# EAGLE library part DWM1000 (library libsDWM1000)
Mod Ieee802.15.4-2011 Uwb Txrx
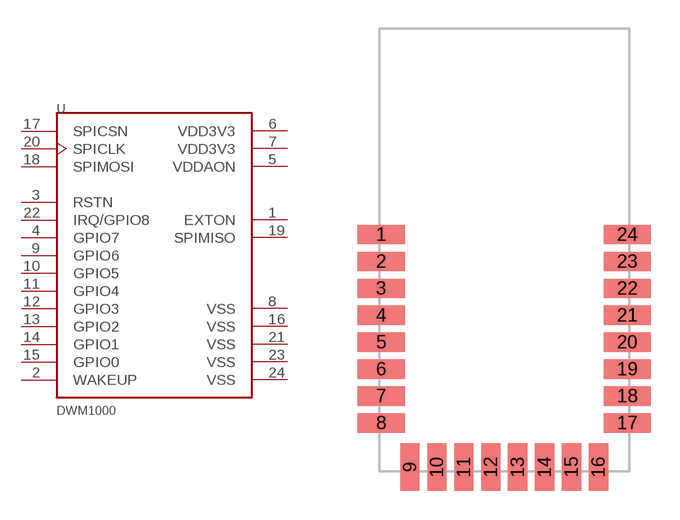
[diagram p0: symbol with the pads of XCVR_DWM1000; footprint XCVR_DWM1000]

Designator prefix U

## DWM1000  [XCVR_DWM1000]
1  EXTON  out
2  WAKEUP
3  RSTN
4  GPIO7
5  VDDAON  pwr
6  VDD3V3  pwr
7  VDD3V3  pwr
8  VSS  pwr
9  GPIO6
10  GPIO5
11  GPIO4
12  GPIO3
13  GPIO2
14  GPIO1
15  GPIO0
16  VSS  pwr
17  SPICSN  in
18  SPIMOSI  in
19  SPIMISO  out
20  SPICLK  in
21  VSS  pwr
22  IRQ/GPIO8
23  VSS  pwr
24  VSS  pwr

## Footprint XCVR_DWM1000 (pad centres in mm)
smd 2.45 x 1: 1 -6.4,1.8; 2 -6.4,0.4; 3 -6.4,-1; 4 -6.4,-2.4; 5 -6.4,-3.8; 6 -6.4,-5.2; 7 -6.4,-6.6; 8 -6.4,-8; 17 6.4,-8; 18 6.4,-6.6; 19 6.4,-5.2; 20 6.4,-3.8; 21 6.4,-2.4; 22 6.4,-1; 23 6.4,0.4; 24 6.4,1.8
smd 1 x 2.45: 9 -4.9,-10.295; 10 -3.5,-10.295; 11 -2.1,-10.295; 12 -0.7,-10.295; 13 0.7,-10.295; 14 2.1,-10.295; 15 3.5,-10.295; 16 4.9,-10.295